# Altium footprint library IrDA Tongue.PcbLib: 1 footprints
Each footprint in its own frame and in the unit in brackets; x right, y up, seen from the top. Pads: shape width x height; smd on the part's side, far side on the other; paste and mask are expansions set on the pad; w line width, h text height; cw(c..) or ccw(c..) is an arc to the next point about the centre after c.
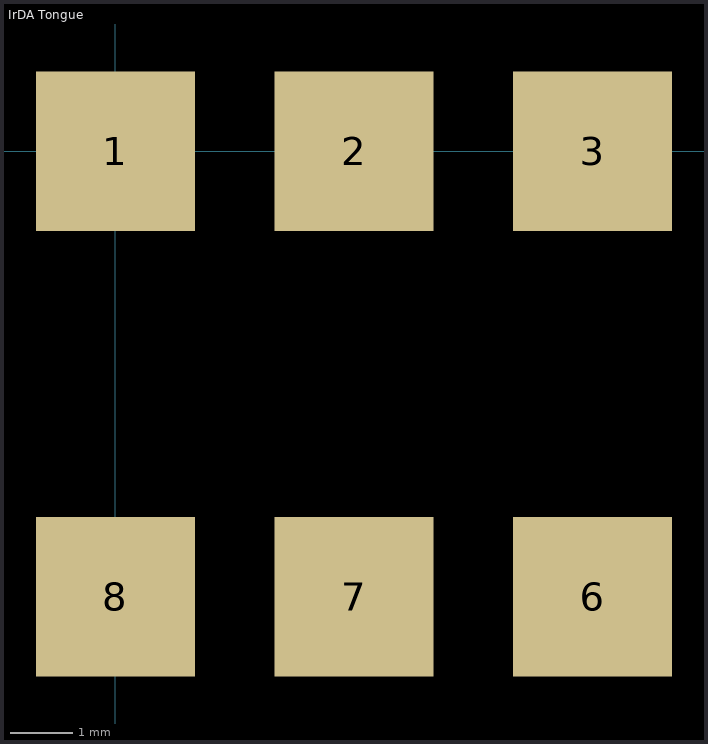
[diagram p0: the footprint, top view; thin cyan lines are the x and y axes]

## IrDA Tongue [mil]
pads (6):
  rect 100x100 smd: 1(0,0) 2(150,0) 3(300,0) 6(300,-280) 7(150,-280) 8(0,-280)